# Altium footprint library SMD-Footprint.PcbLib: 13 footprints
Each footprint in its own frame and in the unit in brackets; x right, y up, seen from the top. Pads: shape width x height; smd on the part's side, far side on the other; paste and mask are expansions set on the pad; w line width, h text height; cw(c..) or ccw(c..) is an arc to the next point about the centre after c.
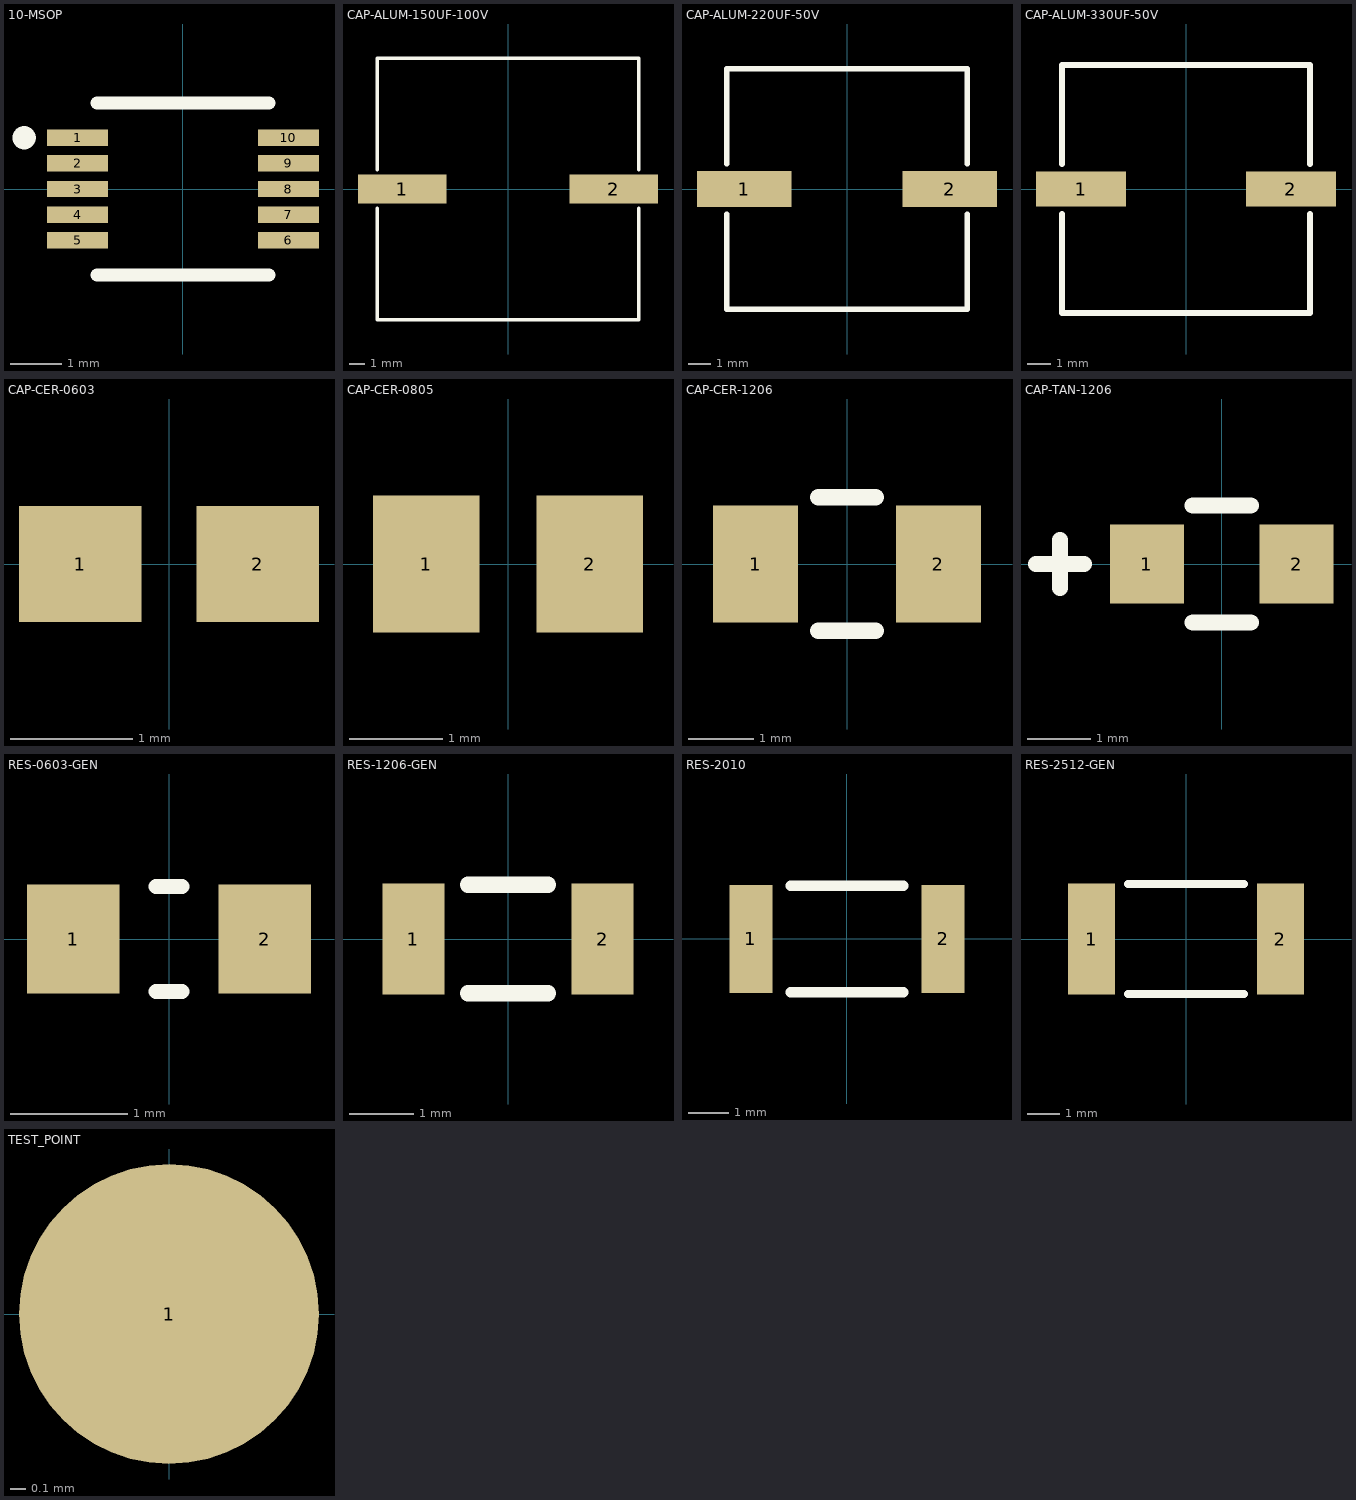
[diagram p0: the footprints below, top view; thin cyan lines are the x and y axes]

## 10-MSOP [mil]
pads (10):
  rect 47x12.6 smd paste+0 mask+0: 1(-81,39.37) 2(-81,19.68) 3(-81,0) 4(-81,-19.68) 5(-81,-39.37) 6(81,-39.37) 7(81,-19.68) 8(81,0) 9(81,19.68) 10(81,39.37)
Top Overlay:
  circle w10: c-122.05,39.37 r3.94
  lines w10: -66,-66 66,-66 ; -66,66 66,66
3D body "AD5170BRMZ100-ND_MOD.STEP": height 38.39, standoff -0.98, extent -96.99,-59.06 96.99,59.06

## CAP-ALUM-150UF-100V [mil]
pads (2):
  rect 233x75 smd paste+0 mask+0: 1(-277.5,0) 2(277.5,0)
Top Overlay:
  lines w10: -343.5,-50.6 -343.5,-343.5 343.5,-343.5 343.5,-50.6 ; -343.5,50.6 -343.5,343.5 343.5,343.5 343.5,50.6
3D body "EEVFK2A151M_MOD.STEP": height 649.65, standoff 0, extent -362.2,-334.65 362.2,334.65

## CAP-ALUM-220UF-50V [mil]
pads (2):
  rect 166x63 smd paste+0 mask+0: 1(-181,0) 2(181,0)
Top Overlay:
  lines w10: -211.5,-44.6 -211.5,-211.5 211.5,-211.5 211.5,-44.6 ; -211.5,44.6 -211.5,211.5 211.5,211.5 211.5,44.6
3D body "EEE1HA221P_MOD.STEP": height 405.55, standoff 3.94, extent -230.31,-202.76 230.31,202.76

## CAP-ALUM-330UF-50V [mil]
pads (2):
  rect 154x59 smd paste+0 mask+0: 1(-179,0) 2(179,0)
Top Overlay:
  lines w10: -211.5,-42.6 -211.5,-211.5 211.5,-211.5 211.5,-42.6 ; -211.5,42.6 -211.5,211.5 211.5,211.5 211.5,42.6
3D body "EEEFT1H331AP_MOD.STEP": height 405.55, standoff 3.94, extent -230.31,-202.76 230.31,202.76

## CAP-CER-0603 [mm]
pads (2):
  rect 1.006x0.95 smd paste+0 mask+0: 1(-0.728,0) 2(0.728,0)
3D body "C0603C104K5RAC7867.step": height 0.95, standoff 0, extent -0.9,-0.5 0.85,0.45

## CAP-CER-0805 [mm]
pads (2):
  rect 1.15x1.47 smd: 1(-0.88,0) 2(0.88,0)
3D body "CAPC2012X150N.step": height 1.28, standoff 0.03, extent -1,-0.75 1,0.75

## CAP-CER-1206 [mm]
pads (2):
  rect 1.306x1.8 smd paste+0 mask+0: 1(-1.403,0) 2(1.403,0)
Top Overlay:
  lines w0.254: -0.442,-1.027 0.442,-1.027 ; -0.442,1.027 0.442,1.027
3D body "Ceramic_Capacitor_1206_h32mil.step": height 0.81, standoff 0.01, extent -1.6,-0.8 1.6,0.8

## CAP-TAN-1206 [mil]
pads (2):
  rect 46.35x49.18 smd paste+0 mask+0: 1(-46.75,0) 2(46.75,0)
Top Overlay:
  lines w10: -115.99,0 -85.99,0 ; -100.99,-15 -100.99,15 ; -18.11,-36.5 18.11,-36.5 ; -18.11,36.5 18.11,36.5
3D body "CAPT-TAN-1206.STEP": height 70.87, standoff 0, extent -66.93,-35.43 66.93,35.43

## RES-0603-GEN [mm]
pads (2):
  rect 0.79x0.93 smd: 1(-0.82,0) 2(0.82,0)
Top Overlay:
  lines w0.127: -0.11,-0.45 0.11,-0.45 ; -0.11,0.45 0.11,0.45
3D body "RESC1608X55N.step": height 0.55, standoff 0, extent -0.8,-0.4 0.8,0.4

## RES-1206-GEN [mm]
pads (2):
  rect 0.97x1.73 smd: 1(-1.48,0) 2(1.48,0)
Top Overlay:
  lines w0.254: -0.625,-0.85 0.625,-0.85 ; -0.625,0.85 0.625,0.85
3D body "RES_1206-GEN.STEP": height 0.85, standoff 0, extent -1.6,-0.8 1.6,0.8

## RES-2010 [mm]
pads (2):
  rect 1.07x2.67 smd: 1(-2.38,0) 2(2.38,0)
Top Overlay:
  lines w0.254: -1.4,-1.32 1.4,-1.32 ; -1.4,1.32 1.4,1.32
3D body "PT2010FK-7W0R33L.step": height 0.65, standoff 0, extent -2.5,-1.25 2.5,1.25

## RES-2512-GEN [mm]
pads (2):
  rect 1.46x3.44 smd: 1(-2.926,0) 2(2.926,0)
Top Overlay:
  lines w0.254: -1.8,-1.7 1.8,-1.7 ; -1.8,1.7 1.8,1.7
3D body "step_temp.STEP": height 0.89, standoff 0, extent -3.175,-1.59 3.175,1.59

## TEST_POINT [mm]
pads (1):
  round 2 smd: 1(0,0)